# Altium footprint library SSOP-20.PcbLib: 1 footprints
Each footprint in its own frame and in the unit in brackets; x right, y up, seen from the top. Pads: shape width x height; smd on the part's side, far side on the other; paste and mask are expansions set on the pad; w line width, h text height; cw(c..) or ccw(c..) is an arc to the next point about the centre after c.
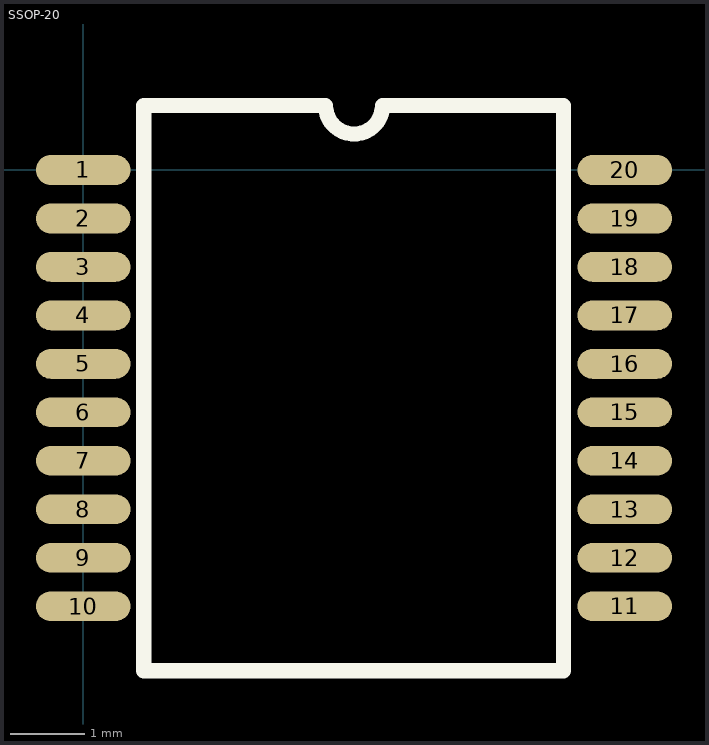
[diagram p0: the footprint, top view; thin cyan lines are the x and y axes]

## SSOP-20 [mm]
pads (20):
  oval 1.27x0.4 smd: 1(0,0) 2(0,-0.65) 3(0,-1.3) 4(0,-1.95) 5(0,-2.6) 6(0,-3.25) 7(0,-3.9) 8(0,-4.55) 9(0,-5.2) 10(0,-5.85) 11(7.264,-5.85) 12(7.264,-5.2) 13(7.264,-4.55) 14(7.264,-3.9) 15(7.264,-3.25) 16(7.264,-2.6) 17(7.264,-1.95) 18(7.264,-1.3) 19(7.264,-0.65) 20(7.264,0)
TopOverlay:
  lines w0.203: 0.813,-6.716 6.443,-6.716 6.443,0.864 4.014,0.864 cw(c3.633,0.864) 3.252,0.864 0.813,0.864 0.813,-6.716
3D body: height 1.98, standoff -0.01, extent -0.277,-6.174 7.623,0.326